# EAGLE library part CY6264-70SNXC (library Cypress_By_element14_Batch_1)
8K x 8 Static RAM
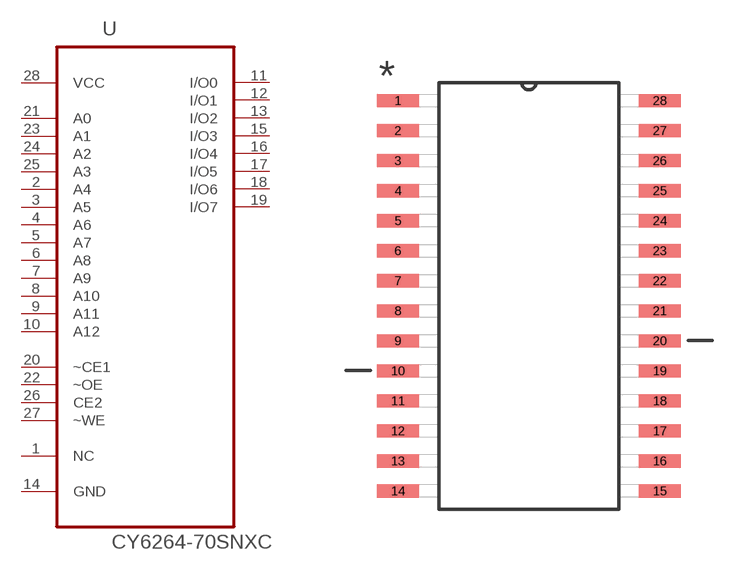
[diagram p14: symbol with the pads of SOIC127P1193X253-28N; footprint SOIC127P1193X253-28N]

Designator prefix U

## CY6264-70SNXC (DESCRIPTION: 8K x 8 Static RAM; MPN: CY6264-70SNXC; OC_FARNELL: 8911460; OC_NEWARK: 19M2607; PACKAGE: SOIC-28; SUPPLIER: CYPRESS SEMICONDUCTOR)  [SOIC127P1193X253-28N]
1  NC  nc
2  A4  in
3  A5  in
4  A6  in
5  A7  in
6  A8  in
7  A9  in
8  A10  in
9  A11  in
10  A12  in
11  I/O0
12  I/O1
13  I/O2
14  GND  pas
15  I/O3
16  I/O4
17  I/O5
18  I/O6
19  I/O7
20  ~CE1  in
21  A0  in
22  ~OE  in
23  A1  in
24  A2  in
25  A3  in
26  CE2  in
27  ~WE  in
28  VCC  pwr

## Footprint SOIC127P1193X253-28N (pad centres in mm)
smd 1.778 x 0.559: 1 -5.537,8.255; 2 -5.537,6.985; 3 -5.537,5.715; 4 -5.537,4.445; 5 -5.537,3.175; 6 -5.537,1.905; 7 -5.537,0.635; 8 -5.537,-0.635; 9 -5.537,-1.905; 10 -5.537,-3.175; 11 -5.537,-4.445; 12 -5.537,-5.715; 13 -5.537,-6.985; 14 -5.537,-8.255; 15 5.537,-8.255; 16 5.537,-6.985; 17 5.537,-5.715; 18 5.537,-4.445; 19 5.537,-3.175; 20 5.537,-1.905; 21 5.537,-0.635; 22 5.537,0.635; 23 5.537,1.905; 24 5.537,3.175; 25 5.537,4.445; 26 5.537,5.715; 27 5.537,6.985; 28 5.537,8.255